# EAGLE library part PRZELACZNIK_SUWAKOWY (library micromouse)
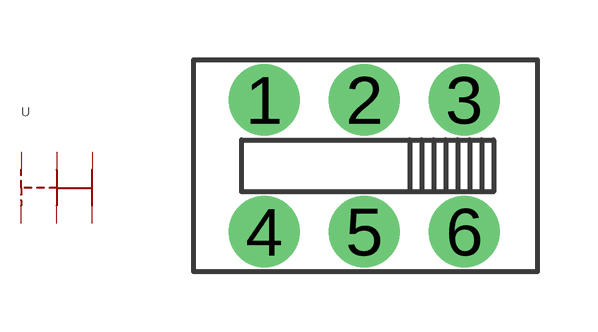
[diagram p9: symbol with the pads of PRZELACZNIK_SUWAKOWY; footprint PRZELACZNIK_SUWAKOWY]

Designator prefix -

## PRZELACZNIK_SUWAKOWY  [PRZELACZNIK_SUWAKOWY]
1  1
2  2
3  3
4  4
5  5
6  6

## Footprint PRZELACZNIK_SUWAKOWY (pad centres in mm)
drill 1 pad 1.778: 1 -1.23,0; 2 1.27,0; 3 3.77,0; 4 -1.23,-3.3; 5 1.27,-3.3; 6 3.77,-3.3